# Altium schematic symbol library EOB68200X.SchLib: 3 symbols
Pins are listed as number, name and electrical type; pins without a type are passive.

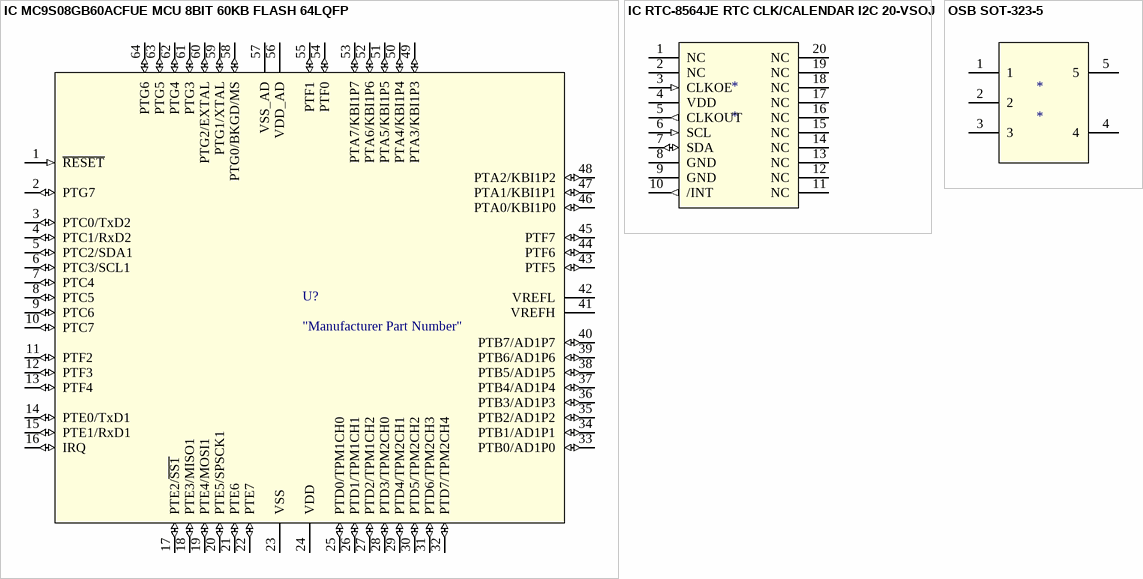
[diagram p0: symbols IC MC9S08GB60ACFUE MCU 8BIT 60KB FLASH 64LQFP to OSB SOT-323-5]

## IC MC9S08GB60ACFUE MCU 8BIT 60KB FLASH 64LQFP
designator U?, comment "Manufacturer Part Number"
Manufacturer: NXP Freescale; Manufacturer Part Number: MC9S08GB60ACFUE; RAM Size: 4KB; Frequency: 40MHz; Memory Size: 60KB; Number of Bits: 8; Core Architecture: S08; Interface: I2C,SPI,SCI; Number of I/Os: 56; Max Supply Voltage: 3.6V; Min Supply Voltage: 1.8V; Data Bus Width: 8b; Oscillator Type: Internal; Memory Type: FLASH; Watchdog Timer: Yes; Peripherals: PWM,I2C,POR,WDT,LVD; Operating Supply Voltage: 3.3V; Number of UART Channels: 2; Number of SPI Channels: 1; Supplier 1: Digi-Key; Stock 1: 0; Pricing 1: 1=16.16, 10=16.002 (USD); Mount: Surface Mount; Case/Package: LQFP; Number of Pins: 64; Contact Plating: Tin,Matte; Min Operating Temperature: -40°C; Max Operating Temperature: 85°C; Packaging: Tray; Density: 60KB; Number of Timers/Counters: 8; Number of Programmable I/O: 56; Max Frequency: 40MHz; Package Quantity: 160; Number of PWM Channels: 8; Number of ADC Channels: 8; Number of I2C Channels: 1; Termination: SMD/SMT; Length: 10mm; Width: 10mm; Height: 1.4mm; Radiation Hardening: No; REACH SVHC: No SVHC; RoHS Compliant: Yes; ComponentLink1URL: http://www.jameco.com/Jameco/Products/ProdDS/1035379.pdf?src-supplier=Jameco; ComponentLink1Description: http://www.jameco.com/Jameco/Products/ProdDS/1035379.pdf?src-supplier=Jameco; ComponentLink2URL: http://www.farnell.com/datasheets/1844091.pdf?src-supplier=Element14; ComponentLink2Description: http://www.farnell.com/datasheets/1844091.pdf?src-supplier=Element14; ComponentLink3URL: http://www.farnell.com/datasheets/72141.pdf?src-supplier=Farnell; ComponentLink3Description: http://www.farnell.com/datasheets/72141.pdf?src-supplier=Farnell; ComponentLink4URL: http://www.freescale.com/files/microcontrollers/doc/data_sheet/MC9S08GB60A.pdf?src-supplier=Future+Electronics; ComponentLink4Description: http://www.freescale.com/files/microcontrollers/doc/data_sheet/MC9S08GB60A.pdf?src-supplier=Future+Electronics; ComponentLink5URL: http://www.produktinfo.conrad.com/datenblaetter/1100000-1199999/001183148-da-01-en-IC_MCU_60K_F_MC9S08GB60ACFUE_LQFP_64_FRE.pdf?src-supplier=Conrad; ComponentLink5Description: http://www.produktinfo.conrad.com/datenblaetter/1100000-1199999/001183148-da-01-en-IC_MCU_60K_F_MC9S08GB60ACFUE_LQFP_64_FRE.pdf?src-supplier=Conrad; ComponentLink6URL: http://datasheet.iiic.cc/freescale_semiconductor/MC9S08GB60ACFUE.pdf?src-supplier=IIIC; ComponentLink6Description: http://datasheet.iiic.cc/freescale_semiconductor/MC9S08GB60ACFUE.pdf?src-supplier=IIIC; Supplier Part Number 1: MC9S08GB60ACFUE-ND
pins: 1 ~{RESET} (in), 2 PTG7 (io), 3 PTC0/TxD2 (io), 4 PTC1/RxD2 (io), 5 PTC2/SDA1 (io), 6 PTC3/SCL1 (io), 7 PTC4 (io), 8 PTC5 (io), 9 PTC6 (io), 10 PTC7 (io), 11 PTF2 (io), 12 PTF3 (io), 13 PTF4 (io), 14 PTE0/TxD1 (io), 15 PTE1/RxD1 (io), 16 IRQ (io), 17 PTE2/~{SS1} (io), 18 PTE3/MISO1 (io), 19 PTE4/MOSI1 (io), 20 PTE5/SPSCK1 (io), 21 PTE6 (io), 22 PTE7 (io), 23 VSS (power), 24 VDD (power), 25 PTD0/TPM1CH0 (io), 26 PTD1/TPM1CH1 (io), 27 PTD2/TPM1CH2 (io), 28 PTD3/TPM2CH0 (io), 29 PTD4/TPM2CH1 (io), 30 PTD5/TPM2CH2 (io), 31 PTD6/TPM2CH3 (io), 32 PTD7/TPM2CH4 (io), 33 PTB0/AD1P0 (io), 34 PTB1/AD1P1 (io), 35 PTB2/AD1P2 (io), 36 PTB3/AD1P3 (io), 37 PTB4/AD1P4 (io), 38 PTB5/AD1P5 (io), 39 PTB6/AD1P6 (io), 40 PTB7/AD1P7 (io), 41 VREFH (power), 42 VREFL (power), 43 PTF5 (io), 44 PTF6 (io), 45 PTF7 (io), 46 PTA0/KBI1P0 (io), 47 PTA1/KBI1P1 (io), 48 PTA2/KBI1P2 (io), 49 PTA3/KBI1P3 (io), 50 PTA4/KBI1P4 (io), 51 PTA5/KBI1P5 (io), 52 PTA6/KBI1P6 (io), 53 PTA7/KBI1P7 (io), 54 PTF0 (io), 55 PTF1 (io), 56 VDD_AD (power), 57 VSS_AD (power), 58 PTG0/BKGD/MS (io), 59 PTG1/XTAL (io), 60 PTG2/EXTAL (io), 61 PTG3 (io), 62 PTG4 (io), 63 PTG5 (io), 64 PTG6 (io)

## IC RTC-8564JE RTC CLK/CALENDAR I2C 20-VSOJ
designator *
pins: 1 NC, 2 NC, 3 CLKOE (in), 4 VDD (power), 5 CLKOUT (out), 6 SCL (in), 7 SDA (io), 8 GND (power), 9 GND (power), 10 /INT (out), 11 NC, 12 NC, 13 NC, 14 NC, 15 NC, 16 NC, 17 NC, 18 NC, 19 NC, 20 NC

## OSB SOT-323-5
designator *
pins: 1, 2, 3, 4, 5